# EAGLE library part RJ45V_SW (library Traficon)
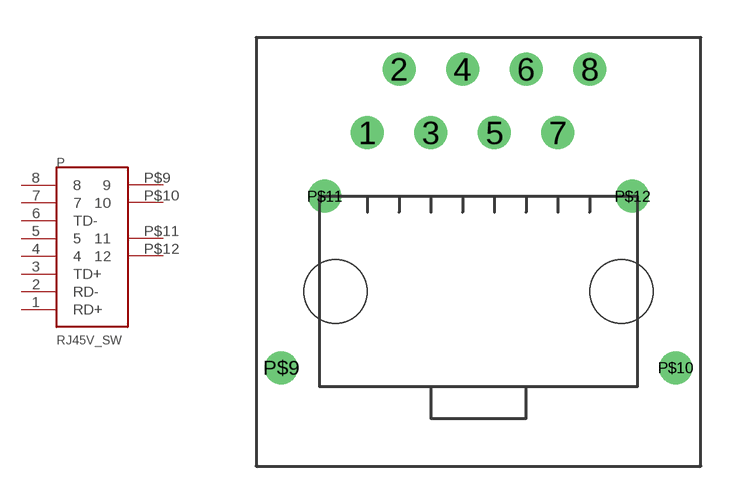
[diagram p16: symbol with the pads of RJ45; footprint RJ45]

Designator prefix P

## RJ45V_SW  [RJ45]
1  RD+  pas
2  RD-  pas
3  TD+  pas
4  4  pas
5  5  pas
6  TD-  pas
7  7  pas
8  8  pas
P$9  9  pas
P$10  10  pas
P$11  11  pas
P$12  12  pas

## Footprint RJ45 (pad centres in mm)
drill 0.813 round: 1 -4.445,6.35; 2 -3.175,8.89; 3 -1.905,6.35; 4 -0.635,8.89; 5 0.635,6.35; 6 1.905,8.89; 7 3.175,6.35; 8 4.445,8.89; P$9 -7.874,-3.048; P$10 7.874,-3.048; P$11 -6.147,3.81; P$12 6.147,3.81
hole 2.54 at -5.715,0
hole 2.54 at 5.715,0